# Altium schematic symbol library XT30-M.SchLib: 1 symbol
Pins are listed as number, name and electrical type; pins without a type are passive.

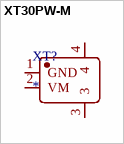
[diagram p0: symbol XT30PW-M]

## XT30PW-M
designator XT?
footprint XT30PW-M
pins: 1 GND, 2 VM, 3, 4